# EAGLE library part MPU9250 (library CarTalkImu)
IMU ACCEL/GYRO/MAG I2C/SPI 24QFN
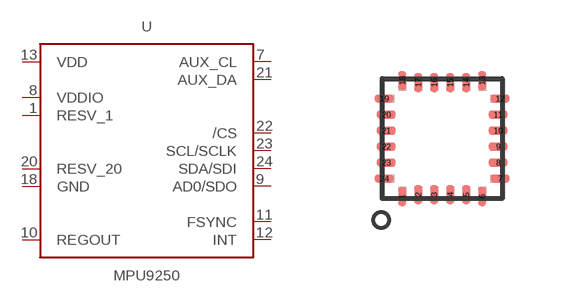
[diagram p2: symbol with the pads of QFN24-NP; footprint QFN24-NP]

Designator prefix -

## MPU9250 (MFG: TDK InvenSense; MPN: MPU-9250; PN-DK: 1428-1019-1-ND)  [QFN24-NP]
1  RESV_1
7  AUX_CL
8  VDDIO
9  AD0/SDO
10  REGOUT
11  FSYNC
12  INT
13  VDD
18  GND
20  RESV_20
21  AUX_DA
22  /CS
23  SCL/SCLK
24  SDA/SDI

## Footprint QFN24-NP (pad centres in mm)
smd 0.2 x 0.48: 1 -1,-1.45; 2 -0.6,-1.4; 3 -0.2,-1.4; 4 0.2,-1.4; 5 0.6,-1.4; 6 1,-1.45; 13 1,1.45; 14 0.6,1.4; 15 0.2,1.4; 16 -0.2,1.4; 17 -0.6,1.4; 18 -1,1.45
smd 0.48 x 0.2: 7 1.45,-1; 8 1.4,-0.6; 9 1.4,-0.2; 10 1.4,0.2; 11 1.4,0.6; 12 1.45,1; 19 -1.45,1; 20 -1.4,0.6; 21 -1.4,0.2; 22 -1.4,-0.2; 23 -1.4,-0.6; 24 -1.45,-1